# Altium footprint library MyLib.PcbLib: 38 footprints (part 3 of 3)
Each footprint in its own frame and in the unit in brackets; x right, y up, seen from the top. Pads: shape width x height; smd on the part's side, far side on the other; paste and mask are expansions set on the pad; w line width, h text height; cw(c..) or ccw(c..) is an arc to the next point about the centre after c.
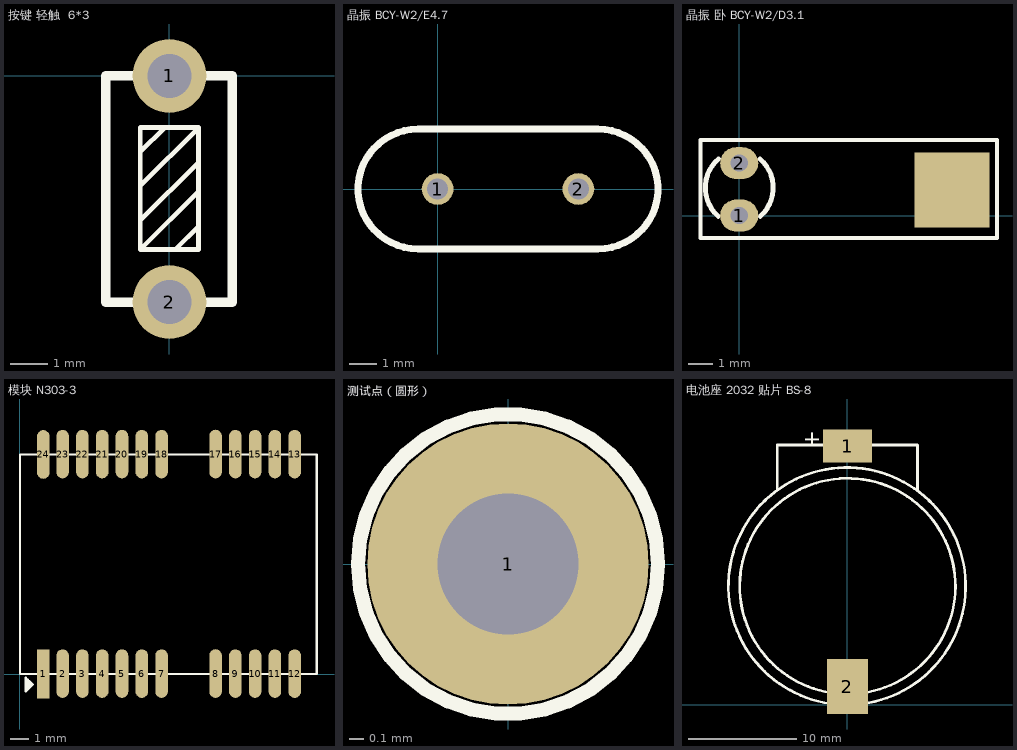
[diagram p2: the footprints below, top view; thin cyan lines are the x and y axes]

## 按键 轻触  6*3 [mm]
pads (2):
  round 2 hole 1.2: 1(0,0) 2(0,-6.121)
Top Overlay:
  lines w0.127: -0.787,-3.937 -0.787,-3.912 0.787,-2.337 ; -0.787,-2.997 -0.787,-2.972 0.787,-1.397 ; -0.787,-2.134 -0.787,-2.057 -0.127,-1.397 ; 0.076,-4.699 0.152,-4.699 0.787,-4.064 ; 0.787,-3.073 0.787,-3.124 -0.787,-4.699 ; 0.787,-2.083 0.787,-2.032 ; -0.787,-4.699 0.787,-4.699 0.787,-1.397 ; -0.787,-4.699 -0.787,-1.397 0.787,-1.397
  lines w0.254: -1.727,-6.121 1.702,-6.121 1.702,0 -1.727,0 -1.727,-6.121

## 晶振 BCY-W2/E4.7 [mil] "Quartz Crystal, Thru-Hole; 2 Leads; Body 11.35 x 4.65 x 13.46 mm (LxWxH max)"
height 529.92
pads (2):
  round 45 hole 30: 1(0,0) 2(200,0)
Top Overlay:
  lines w10: -28,-85.01 cw(c-28,0) -28,85.01 228,85.01 cw(c228,0) 228,-85.01 -28,-85.01

## 晶振 卧 BCY-W2/D3.1 [mm]
pads (3):
  oval 1.554x1.3 hole 0.7: 1(0,0) 2(0,2.134)
  rect 3.048x3.048 smd: ""(8.666,1.041)
Top Overlay:
  lines w0.152: -1.575,-0.914 10.49,-0.914 10.49,3.073 -1.575,3.073 -1.575,-0.914
  lines w0.2: -0.854,-0.033 cw(c0.168,1.132) -0.838,2.311 ; 0.838,2.311 cw(c-0.168,1.132) 0.854,-0.033

## 模块 N303-3 [mm]
height 1.75
pads (24):
  rect 0.7x2.7 smd: 1(1.3,0.005)
  oval 0.7x2.7 smd: 2(2.375,0.025) 3(3.475,0.025) 4(4.575,0.025) 5(5.675,0.025) 6(6.775,0.025) 7(7.875,0.025) 8(10.875,0.029) 9(11.975,0.025) 10(13.075,0.025) 11(14.175,0.025) 12(15.275,0.025) 13(15.275,12.225) 14(14.175,12.225) 15(13.075,12.225) 16(11.975,12.225) 17(10.875,12.229) 18(7.875,12.225) 19(6.775,12.225) 20(5.675,12.225) 21(4.575,12.225) 22(3.475,12.225) 23(2.375,12.225) 24(1.3,12.205)
Top Overlay:
  lines w0.127: 0.432,-0.305 0.432,-0.864 0.521,-0.775 ; 0.521,-0.394 0.521,-0.775 ; 0.635,-0.508 0.635,-0.66 0.521,-0.775 ; 0,0 16.5,0 16.5,12.2 0,12.2 0,0 ; 0.33,-0.965 0.711,-0.584 0.33,-0.203 0.33,-0.965

## 测试点（圆形） [mm]
height 1.75
pads (1):
  round 2 hole 1: 1(0,0)
Top Overlay:
  circle w0.102: c0,0 r1.067

## 电池座 2032 贴片 BS-8 [mil]
height 68.9
pads (2):
  rect 180x120 smd: 1(0.5,944.88)
  rect 150x200 smd: 2(0,67)
Top Overlay:
  lines w5: -0.5,-0.5 0.5,0.5
  lines w10: -255.91,788 -255.91,949.26 -84.26,949.26 ; 48.02,42.68 cw(c0.5,433.5) 53.34,43.36 ; 50.77,3.59 cw(c-1.5,433.5) 56.62,4.35 ; 84.26,949.26 255.91,949.26 255.91,782
  text "+" at -154,1002 h60